# EAGLE library part IN-16 (library NixieTube)
IN-16: small numeric frontview nixie tube
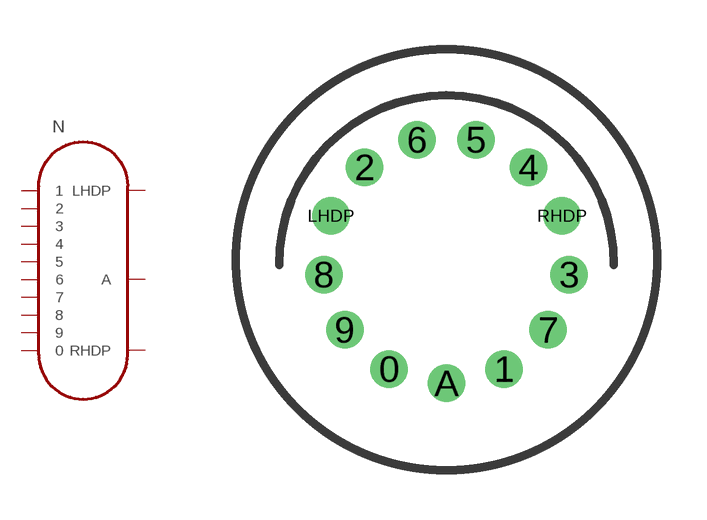
[diagram p12: symbol with the pads of IN-16; footprint IN-16]

Designator prefix N

## IN-16  [IN-16]
0  0
1  1
2  2
3  3
4  4
5  5
6  6
7  7
8  8
9  9
A  A
LHDP  LHDP
RHDP  RHDP

## Footprint IN-16 (pad centres in mm)
drill 0.63: 0 -1.745,-3.325; 1 1.745,-3.325; 2 -2.49,2.81; 3 3.727,-0.453; 4 2.49,2.81; 5 0.898,3.645; 6 -0.898,3.645; 7 3.09,-2.133; 8 -3.727,-0.453; 9 -3.09,-2.133; A 0,-3.755; LHDP -3.511,1.331; RHDP 3.511,1.331